# Altium footprint library 省电模块版v1.0.PcbLib: 7 footprints
Each footprint in its own frame and in the unit in brackets; x right, y up, seen from the top. Pads: shape width x height; smd on the part's side, far side on the other; paste and mask are expansions set on the pad; w line width, h text height; cw(c..) or ccw(c..) is an arc to the next point about the centre after c.
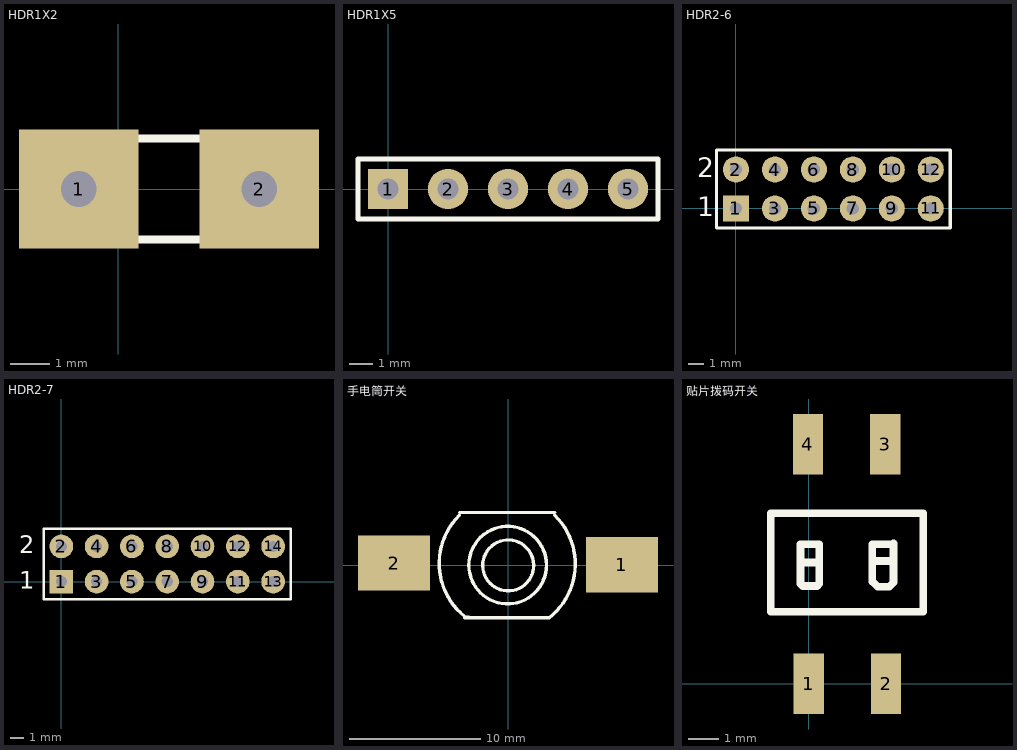
[diagram p0: the footprints below, top view; thin cyan lines are the x and y axes]

## HDR1X2 [mm] "Connector; Header; 2 Position"
pads (2):
  rect 3x3 hole 0.9: 1(-1,0) 2(3.54,0)
Top Overlay:
  lines w0.2: -1.27,-1.27 3.81,-1.27 3.81,1.27 -1.27,1.27 -1.27,-1.27

## HDR1X5 [mm]
height 1
pads (5):
  rect 1.7x1.7 hole 0.9: 1(0,0)
  round 1.7 hole 0.9: 2(2.54,0) 3(5.08,0) 4(7.62,0) 5(10.16,0)
Top Overlay:
  lines w0.2: -1.27,-1.27 -1.27,1.27 11.43,1.27 11.43,-1.27 -1.27,-1.27

## HDR2-6 [mm]
height 1
pads (12):
  rect 1.7x1.7 hole 0.8: 1(0,0)
  round 1.7 hole 0.8: 2(0,2.54) 3(2.54,0) 4(2.54,2.54) 5(5.08,0) 6(5.08,2.54) 7(7.62,0) 8(7.62,2.54) 9(10.16,0) 10(10.16,2.54) 11(12.7,0) 12(12.7,2.54)
Top Overlay:
  lines w0.2: -1.27,-1.27 13.97,-1.27 13.97,3.81 -1.27,3.81 -1.27,-1.27
  text "1" at -2.54,-0.508 h1.27
  text "2" at -2.54,2.032 h1.27

## HDR2-7 [mm]
height 1
pads (14):
  rect 1.7x1.7 hole 0.8: 1(0,0)
  round 1.7 hole 0.8: 2(0,2.54) 3(2.54,0) 4(2.54,2.54) 5(5.08,0) 6(5.08,2.54) 7(7.62,0) 8(7.62,2.54) 9(10.16,0) 10(10.16,2.54) 11(12.7,0) 12(12.7,2.54) 13(15.24,0) 14(15.24,2.54)
Top Overlay:
  lines w0.2: -1.27,-1.27 -1.27,3.81 16.51,3.81 16.51,-1.27 -1.27,-1.27
  text "2" at -3.048,2.032 h1.27
  text "1" at -3.048,-0.508 h1.27

## mini_zigbee [mm] "zigbee"
height 1

## 手电筒开关 [mm]
height 1
pads (2):
  rect 5.5x4.2 smd: 1(8.675,0.05) 2(-8.675,0.175)
Top Overlay:
  circle w0.254: c-0.025,0.025 r2.955
  lines w0.254: -3.715,3.816 ccw(c-0.075,0.15) -3.315,-3.874 ; -3.7,4.025 3.55,4.025 ; -3,-3.95 -3.315,-3.95 -3.29,-3.975 3.1,-3.975 ; 1.955,0 cw(c0.015,0) 1.955,0.045 ; 3.12,-4.001 ccw(c-0.075,0.1) 3.566,3.812

## 贴片拨码开关 [mm]
height 1
pads (4):
  rect 1x2 smd: 1(0,0) 2(2.55,0) 3(2.525,7.9) 4(-0.025,7.9)
Top Overlay:
  lines w0.254: -0.275,4 0.3,4 ; 2.1,4.05 2.75,4.05 ; -1.25,2.375 3.775,2.375 3.775,5.625 -1.25,5.625 -1.25,2.375 ; -0.275,3.3 -0.275,4.6 0.35,4.6 0.35,3.3 0.275,3.225 -0.2,3.225 -0.275,3.3 ; 2.1,3.375 2.1,4.6 2.775,4.6 2.8,4.625 2.8,3.35 2.65,3.2 2.275,3.2 2.1,3.375